# Altium integrated library Micron Memory Parallel NOR Flash.IntLib: 720 symbols (part 24 of 216)
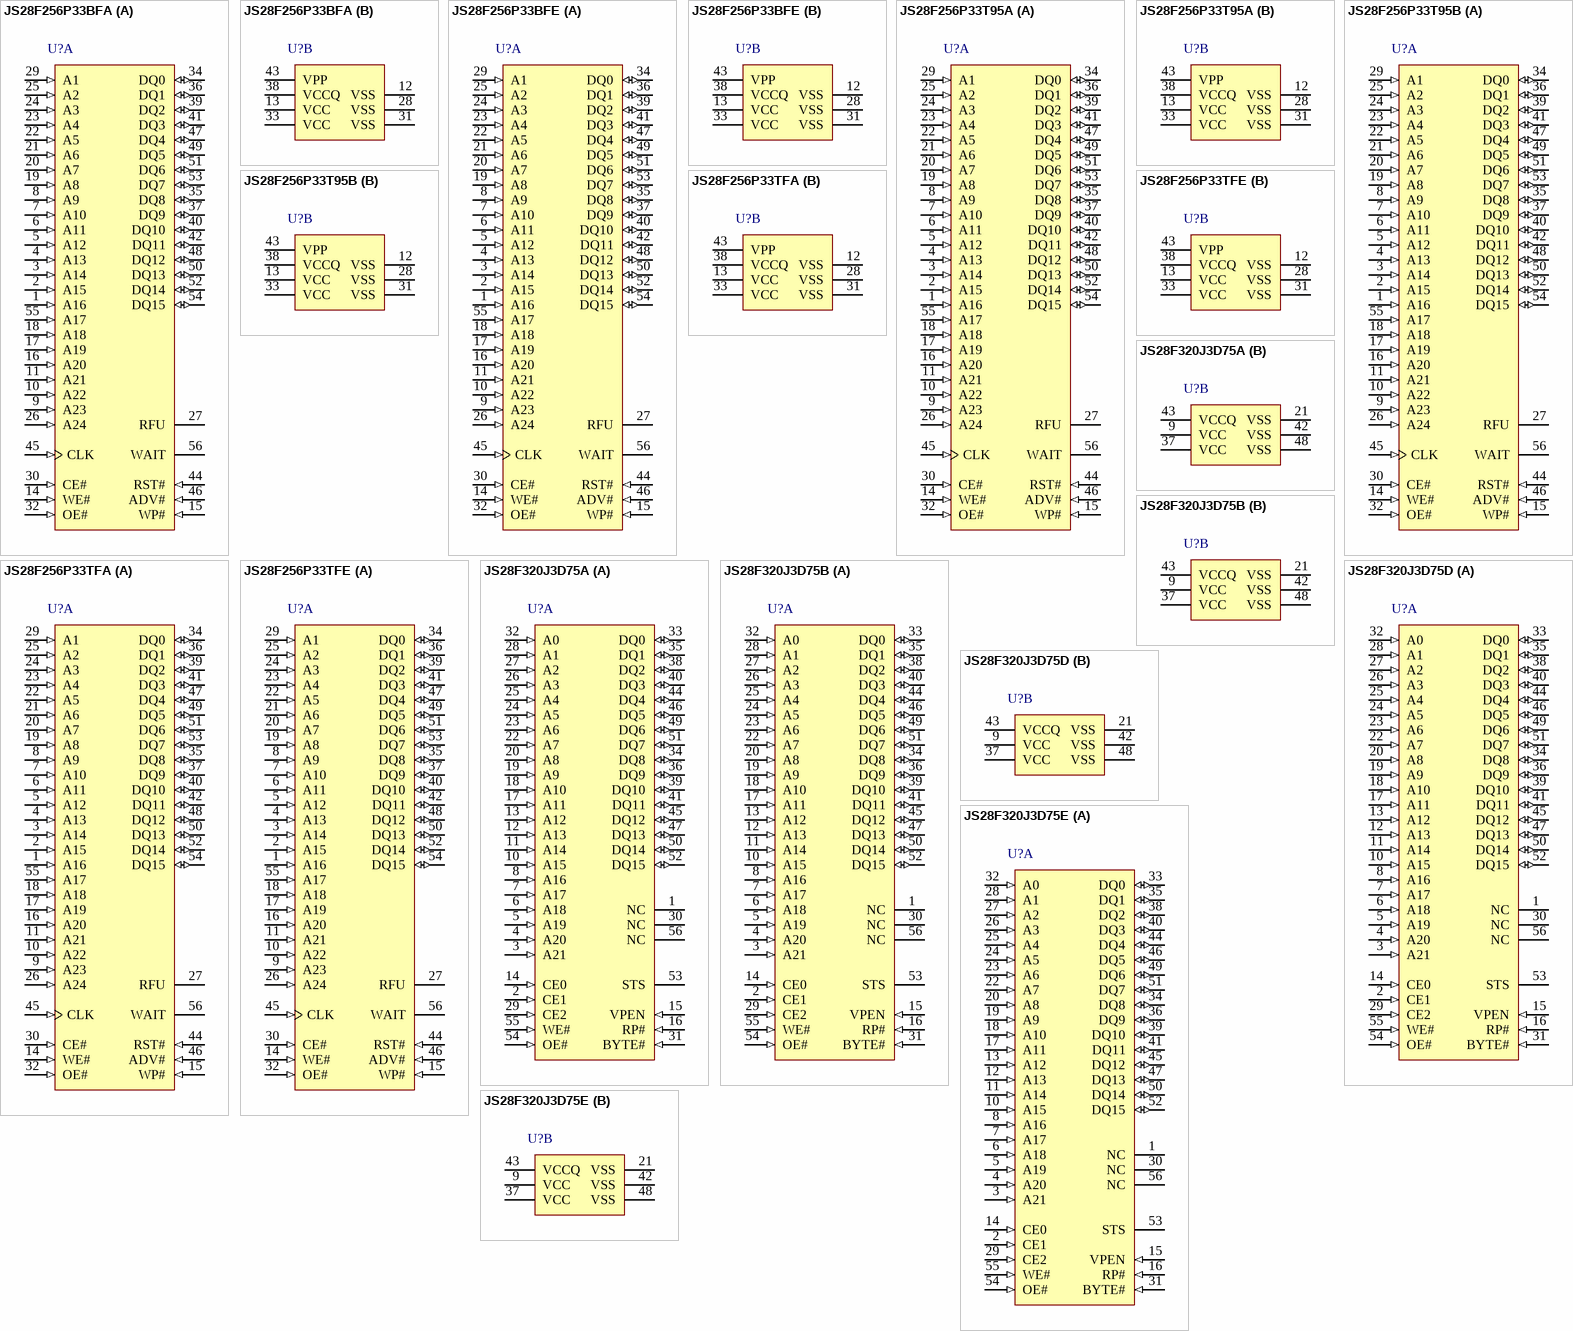
[diagram p83: symbols JS28F256P33BFA to JS28F320J3D75E]

## JS28F256P33BFA
designator U?
256 Mb (x16) Parallel NOR Flash Memory, 95 ns, 2.3 to 3.6 V, 56-pin TSOP (JS), Tray; Part Family: P33; Manufacturer: Micron; PartNumber: JS28F256P33BFA; Density: 256Mb; Op Temp: -40C to +85C; Speed: 95ns; Voltage: 2.3V-3.6V; DatasheetVersion: Rev.10; PackageVersion: Rev. 12; PackageReference: MICT-JS-56; PackageDescription: 56-Pin TSOP, 18.4 X 14 mm, Pitch 0.5 mm; RoHS: Yes; Width: x16; Mounting Technology: Surface Mount; ComponentLink1Description: Manufacturer URL; ComponentLink1URL: http://www.micron.com/; ComponentLink2Description: Datasheet; ComponentLink2URL: http://www.micron.com/~/media/Documents/Products/Data%20Sheet/NOR%20Flash/Parallel/J3/316577_J3D_Monolithic_DS.pdf; ComponentLink3Description: Package Specification; ComponentLink3URL: http://www.micron.com/~/media/Documents/Products/Data%20Sheet/NOR%20Flash/Parallel/P33/320003_P33_65nm_MLC_256MDiscrete_512MStack_DS.pdf
footprint MICT-JS-56_N (SOP, 56-Leads, Body 18.6x14.2mm, Pitch 0.5mm, IPC Medium Density)
part A pins: 1 A16 (in) "ADDRESS INPUT: Device Address Input. 256-Mbit: A[24:1]; 512-Mbit: A[25:1]. Note: The virtual selection of the 256-Mbit "Top parameter" die in the dual-die 512-Mbit configuration is accomplished by setting A25 high (VIH).(See Datasheet)", 2 A15 (in) "ADDRESS INPUT: Device Address Input. 256-Mbit: A[24:1]; 512-Mbit: A[25:1]. Note: The virtual selection of the 256-Mbit "Top parameter" die in the dual-die 512-Mbit configuration is accomplished by setting A25 high (VIH).(See Datasheet)", 3 A14 (in) "ADDRESS INPUT: Device Address Input. 256-Mbit: A[24:1]; 512-Mbit: A[25:1]. Note: The virtual selection of the 256-Mbit "Top parameter" die in the dual-die 512-Mbit configuration is accomplished by setting A25 high (VIH).(See Datasheet)", 4 A13 (in) "ADDRESS INPUT: Device Address Input. 256-Mbit: A[24:1]; 512-Mbit: A[25:1]. Note: The virtual selection of the 256-Mbit "Top parameter" die in the dual-die 512-Mbit configuration is accomplished by setting A25 high (VIH).(See Datasheet)", 5 A12 (in) "ADDRESS INPUT: Device Address Input. 256-Mbit: A[24:1]; 512-Mbit: A[25:1]. Note: The virtual selection of the 256-Mbit "Top parameter" die in the dual-die 512-Mbit configuration is accomplished by setting A25 high (VIH).(See Datasheet)", 6 A11 (in) "ADDRESS INPUT: Device Address Input. 256-Mbit: A[24:1]; 512-Mbit: A[25:1]. Note: The virtual selection of the 256-Mbit "Top parameter" die in the dual-die 512-Mbit configuration is accomplished by setting A25 high (VIH).(See Datasheet)", 7 A10 (in) "ADDRESS INPUT: Device Address Input. 256-Mbit: A[24:1]; 512-Mbit: A[25:1]. Note: The virtual selection of the 256-Mbit "Top parameter" die in the dual-die 512-Mbit configuration is accomplished by setting A25 high (VIH).(See Datasheet)", 8 A9 (in) "ADDRESS INPUT: Device Address Input. 256-Mbit: A[24:1]; 512-Mbit: A[25:1]. Note: The virtual selection of the 256-Mbit "Top parameter" die in the dual-die 512-Mbit configuration is accomplished by setting A25 high (VIH).(See Datasheet)", 9 A23 (in) "ADDRESS INPUT: Device Address Input. 256-Mbit: A[24:1]; 512-Mbit: A[25:1]. Note: The virtual selection of the 256-Mbit "Top parameter" die in the dual-die 512-Mbit configuration is accomplished by setting A25 high (VIH).(See Datasheet)", 10 A22 (in) "ADDRESS INPUT: Device Address Input. 256-Mbit: A[24:1]; 512-Mbit: A[25:1]. Note: The virtual selection of the 256-Mbit "Top parameter" die in the dual-die 512-Mbit configuration is accomplished by setting A25 high (VIH).(See Datasheet)", 11 A21 (in) "ADDRESS INPUT: Device Address Input. 256-Mbit: A[24:1]; 512-Mbit: A[25:1]. Note: The virtual selection of the 256-Mbit "Top parameter" die in the dual-die 512-Mbit configuration is accomplished by setting A25 high (VIH).(See Datasheet)", 14 WE# (in) "WRITE ENABLE: Active low input. WE# controls writes to the device. Address and data are latched on the rising edge of WE# or CE#, whichever occurs first.", 15 WP# (in) "WRITE PROTECT: Active low input. WP# low enables the lock-down mechanism. Blocks in lockdown cannot be unlocked with the Unlock command. WP# high overrides the lock-down function enabling blocks to be erased or programmed (See Datasheet)", 16 A20 (in) "ADDRESS INPUT: Device Address Input. 256-Mbit: A[24:1]; 512-Mbit: A[25:1]. Note: The virtual selection of the 256-Mbit "Top parameter" die in the dual-die 512-Mbit configuration is accomplished by setting A25 high (VIH).(See Datasheet)", 17 A19 (in) "ADDRESS INPUT: Device Address Input. 256-Mbit: A[24:1]; 512-Mbit: A[25:1]. Note: The virtual selection of the 256-Mbit "Top parameter" die in the dual-die 512-Mbit configuration is accomplished by setting A25 high (VIH).(See Datasheet)", 18 A18 (in) "ADDRESS INPUT: Device Address Input. 256-Mbit: A[24:1]; 512-Mbit: A[25:1]. Note: The virtual selection of the 256-Mbit "Top parameter" die in the dual-die 512-Mbit configuration is accomplished by setting A25 high (VIH).(See Datasheet)", 19 A8 (in) "ADDRESS INPUT: Device Address Input. 256-Mbit: A[24:1]; 512-Mbit: A[25:1]. Note: The virtual selection of the 256-Mbit "Top parameter" die in the dual-die 512-Mbit configuration is accomplished by setting A25 high (VIH).(See Datasheet)", 20 A7 (in) "ADDRESS INPUT: Device Address Input. 256-Mbit: A[24:1]; 512-Mbit: A[25:1]. Note: The virtual selection of the 256-Mbit "Top parameter" die in the dual-die 512-Mbit configuration is accomplished by setting A25 high (VIH).(See Datasheet)", 21 A6 (in) "ADDRESS INPUT: Device Address Input. 256-Mbit: A[24:1]; 512-Mbit: A[25:1]. Note: The virtual selection of the 256-Mbit "Top parameter" die in the dual-die 512-Mbit configuration is accomplished by setting A25 high (VIH).(See Datasheet)", 22 A5 (in) "ADDRESS INPUT: Device Address Input. 256-Mbit: A[24:1]; 512-Mbit: A[25:1]. Note: The virtual selection of the 256-Mbit "Top parameter" die in the dual-die 512-Mbit configuration is accomplished by setting A25 high (VIH).(See Datasheet)", 23 A4 (in) "ADDRESS INPUT: Device Address Input. 256-Mbit: A[24:1]; 512-Mbit: A[25:1]. Note: The virtual selection of the 256-Mbit "Top parameter" die in the dual-die 512-Mbit configuration is accomplished by setting A25 high (VIH).(See Datasheet)", 24 A3 (in) "ADDRESS INPUT: Device Address Input. 256-Mbit: A[24:1]; 512-Mbit: A[25:1]. Note: The virtual selection of the 256-Mbit "Top parameter" die in the dual-die 512-Mbit configuration is accomplished by setting A25 high (VIH).(See Datasheet)", 25 A2 (in) "ADDRESS INPUT: Device Address Input. 256-Mbit: A[24:1]; 512-Mbit: A[25:1]. Note: The virtual selection of the 256-Mbit "Top parameter" die in the dual-die 512-Mbit configuration is accomplished by setting A25 high (VIH).(See Datasheet)", 26 A24 (in) "ADDRESS INPUT: Device Address Input. 256-Mbit: A[24:1]; 512-Mbit: A[25:1]. Note: The virtual selection of the 256-Mbit "Top parameter" die in the dual-die 512-Mbit configuration is accomplished by setting A25 high (VIH).(See Datasheet)", 27 RFU "RESERVED FOR FUTURE USE: Reserved by Numonyx for future device functionality and enhancement. These should be treated in the same way as a Don't Use (DU) signal.", 29 A1 (in) "ADDRESS INPUT: Device Address Input. 256-Mbit: A[24:1]; 512-Mbit: A[25:1]. Note: The virtual selection of the 256-Mbit "Top parameter" die in the dual-die 512-Mbit configuration is accomplished by setting A25 high (VIH).(See Datasheet)", 30 CE# (in) "CHIP ENABLE: Active low input. CE# low selects the associated flash memory die. When asserted,flash internal control logic, input buffers, decoders, and sense amplifiers are active. When deasserted, the associated flash die (See Datasheet)", 32 OE# (in) "OUTPUT ENABLE: Active low input. OE# low enables the device's output data buffers during read cycles. OE# high places the data outputs and WAIT in High-Z.", 34 DQ0 (io) "DATA INPUT/OUTPUT: Inputs data and commands during write cycles; Outputs data during reads of memory, status register, OTP register, and read configuration register. Data balls float when the CE# or OE# are deasserted. Data is (See Datasheet)", 35 DQ8 (io) "DATA INPUT/OUTPUT: Inputs data and commands during write cycles; Outputs data during reads of memory, status register, OTP register, and read configuration register. Data balls float when the CE# or OE# are deasserted. Data (See Datasheet)", 36 DQ1 (io) "DATA INPUT/OUTPUT: Inputs data and commands during write cycles; Outputs data during reads of memory, status register, OTP register, and read configuration register. Data balls float when the CE# or OE# are deasserted. Data is (See Datasheet)", 37 DQ9 (io) "DATA INPUT/OUTPUT: Inputs data and commands during write cycles; Outputs data during reads of memory, status register, OTP register, and read configuration register. Data balls float when the CE# or OE# are deasserted. Data (See Datasheet)", 39 DQ2 (io) "DATA INPUT/OUTPUT: Inputs data and commands during write cycles; Outputs data during reads of memory, status register, OTP register, and read configuration register. Data balls float when the CE# or OE# are deasserted. Data is (See Datasheet)", 40 DQ10 (io) "DATA INPUT/OUTPUT: Inputs data and commands during write cycles; Outputs data during reads of memory, status register, OTP register, and read configuration register. Data balls float when the CE# or OE# are deasserted. Data (See Datasheet)", 41 DQ3 (io) "DATA INPUT/OUTPUT: Inputs data and commands during write cycles; Outputs data during reads of memory, status register, OTP register, and read configuration register. Data balls float when the CE# or OE# are deasserted. Data is (See Datasheet)", 42 DQ11 (io) "DATA INPUT/OUTPUT: Inputs data and commands during write cycles; Outputs data during reads of memory, status register, OTP register, and read configuration register. Data balls float when the CE# or OE# are deasserted. Data (See Datasheet)", 44 RST# (in) "RESET: Active low input. RST# resets internal automation and inhibits write operations. This provides data protection during power transitions. RST# high enables normal operation. Exit from reset places the device in (See Datasheet)", 45 CLK (in) "CLOCK: Synchronizes the device with the system's bus frequency in synchronous-read mode.During synchronous read operations, addresses are latched on the rising edge of ADV#, or on the next valid CLK edge with ADV# low, (See Datasheet)", 46 ADV# (in) "ADDRESS VALID: Active low input. During synchronous read operations, addresses are latched on the rising edge of ADV#, or on the next valid CLK edge with ADV# low, whichever occurs first.In asynchronous mode, the address is (See Datasheet)", 47 DQ4 (io) "DATA INPUT/OUTPUT: Inputs data and commands during write cycles; Outputs data during reads of memory, status register, OTP register, and read configuration register. Data balls float when the CE# or OE# are deasserted. Data is (See Datasheet)", 48 DQ12 (io) "DATA INPUT/OUTPUT: Inputs data and commands during write cycles; Outputs data during reads of memory, status register, OTP register, and read configuration register. Data balls float when the CE# or OE# are deasserted. Data (See Datasheet)", 49 DQ5 (io) "DATA INPUT/OUTPUT: Inputs data and commands during write cycles; Outputs data during reads of memory, status register, OTP register, and read configuration register. Data balls float when the CE# or OE# are deasserted. Data is (See Datasheet)", 50 DQ13 (io) "DATA INPUT/OUTPUT: Inputs data and commands during write cycles; Outputs data during reads of memory, status register, OTP register, and read configuration register. Data balls float when the CE# or OE# are deasserted. Data (See Datasheet)", 51 DQ6 (io) "DATA INPUT/OUTPUT: Inputs data and commands during write cycles; Outputs data during reads of memory, status register, OTP register, and read configuration register. Data balls float when the CE# or OE# are deasserted. Data is (See Datasheet)", 52 DQ14 (io) "DATA INPUT/OUTPUT: Inputs data and commands during write cycles; Outputs data during reads of memory, status register, OTP register, and read configuration register. Data balls float when the CE# or OE# are deasserted. Data (See Datasheet)", 53 DQ7 (io) "DATA INPUT/OUTPUT: Inputs data and commands during write cycles; Outputs data during reads of memory, status register, OTP register, and read configuration register. Data balls float when the CE# or OE# are deasserted. Data is (See Datasheet)", 54 DQ15 (io) "DATA INPUT/OUTPUT: Inputs data and commands during write cycles; Outputs data during reads of memory, status register, OTP register, and read configuration register. Data balls float when the CE# or OE# are deasserted. Data (See Datasheet)", 55 A17 (in) "ADDRESS INPUT: Device Address Input. 256-Mbit: A[24:1]; 512-Mbit: A[25:1]. Note: The virtual selection of the 256-Mbit "Top parameter" die in the dual-die 512-Mbit configuration is accomplished by setting A25 high (VIH).(See Datasheet)", 56 WAIT (hiz) "WAIT: Indicates data valid in synchronous array or non-array burst reads. RCR[10], (WT)determines its polarity when asserted. WAIT¡¯s active output is VOL or VOH when CE# and OE# are VIL. WAIT is high-Z if CE# or OE# is VIH.? (See Datasheet)"
part B pins: 12 VSS (power) "GROUND: Connect to system ground. Do not float any VSS connection.", 13 VCC (power) "DEVICE CORE POWER SUPPLY: Core (logic) source voltage. Writes to the flash array are inhibited when VCC =< VLKO. Operations at invalid VCC voltages should not be attempted.", 28 VSS (power) "GROUND: Connect to system ground. Do not float any VSS connection.", 31 VSS (power) "GROUND: Connect to system ground. Do not float any VSS connection.", 33 VCC (power) "DEVICE CORE POWER SUPPLY: Core (logic) source voltage. Writes to the flash array are inhibited when VCC =< VLKO. Operations at invalid VCC voltages should not be attempted.", 38 VCCQ (power) "OUTPUT POWER SUPPLY: Output-driver source voltage.", 43 VPP (power) "ERASE AND PROGRAM POWER: A valid voltage on this pin allows erasing or programming.Memory contents cannot be altered when VPP =< VPPLK. Block erase and program at invalid VPP voltages should not be attempted.Set VPP = VPPL (See Datasheet)"

## JS28F256P33BFE
designator U?
256 Mb (x16) Parallel NOR Flash Memory, 95 ns, 2.3 to 3.6 V, 56-pin TSOP (JS), Tray; Part Family: P33; Manufacturer: Micron; PartNumber: JS28F256P33BFE; Density: 256Mb; Op Temp: -40C to +85C; Speed: 95ns; Voltage: 2.3V-3.6V; DatasheetVersion: Rev.10; PackageVersion: Rev. 12; PackageReference: MICT-JS-56; PackageDescription: 56-Pin TSOP, 18.4 X 14 mm, Pitch 0.5 mm; RoHS: Yes; Width: x16; Mounting Technology: Surface Mount; ComponentLink1Description: Manufacturer URL; ComponentLink1URL: http://www.micron.com/; ComponentLink2Description: Datasheet; ComponentLink2URL: http://www.micron.com/~/media/Documents/Products/Data%20Sheet/NOR%20Flash/Parallel/J3/316577_J3D_Monolithic_DS.pdf; ComponentLink3Description: Package Specification; ComponentLink3URL: http://www.micron.com/~/media/Documents/Products/Data%20Sheet/NOR%20Flash/Parallel/P33/320003_P33_65nm_MLC_256MDiscrete_512MStack_DS.pdf
footprint MICT-JS-56_N (SOP, 56-Leads, Body 18.6x14.2mm, Pitch 0.5mm, IPC Medium Density)
part A pins: 1 A16 (in) "ADDRESS INPUT: Device Address Input. 256-Mbit: A[24:1]; 512-Mbit: A[25:1]. Note: The virtual selection of the 256-Mbit "Top parameter" die in the dual-die 512-Mbit configuration is accomplished by setting A25 high (VIH).(See Datasheet)", 2 A15 (in) "ADDRESS INPUT: Device Address Input. 256-Mbit: A[24:1]; 512-Mbit: A[25:1]. Note: The virtual selection of the 256-Mbit "Top parameter" die in the dual-die 512-Mbit configuration is accomplished by setting A25 high (VIH).(See Datasheet)", 3 A14 (in) "ADDRESS INPUT: Device Address Input. 256-Mbit: A[24:1]; 512-Mbit: A[25:1]. Note: The virtual selection of the 256-Mbit "Top parameter" die in the dual-die 512-Mbit configuration is accomplished by setting A25 high (VIH).(See Datasheet)", 4 A13 (in) "ADDRESS INPUT: Device Address Input. 256-Mbit: A[24:1]; 512-Mbit: A[25:1]. Note: The virtual selection of the 256-Mbit "Top parameter" die in the dual-die 512-Mbit configuration is accomplished by setting A25 high (VIH).(See Datasheet)", 5 A12 (in) "ADDRESS INPUT: Device Address Input. 256-Mbit: A[24:1]; 512-Mbit: A[25:1]. Note: The virtual selection of the 256-Mbit "Top parameter" die in the dual-die 512-Mbit configuration is accomplished by setting A25 high (VIH).(See Datasheet)", 6 A11 (in) "ADDRESS INPUT: Device Address Input. 256-Mbit: A[24:1]; 512-Mbit: A[25:1]. Note: The virtual selection of the 256-Mbit "Top parameter" die in the dual-die 512-Mbit configuration is accomplished by setting A25 high (VIH).(See Datasheet)", 7 A10 (in) "ADDRESS INPUT: Device Address Input. 256-Mbit: A[24:1]; 512-Mbit: A[25:1]. Note: The virtual selection of the 256-Mbit "Top parameter" die in the dual-die 512-Mbit configuration is accomplished by setting A25 high (VIH).(See Datasheet)", 8 A9 (in) "ADDRESS INPUT: Device Address Input. 256-Mbit: A[24:1]; 512-Mbit: A[25:1]. Note: The virtual selection of the 256-Mbit "Top parameter" die in the dual-die 512-Mbit configuration is accomplished by setting A25 high (VIH).(See Datasheet)", 9 A23 (in) "ADDRESS INPUT: Device Address Input. 256-Mbit: A[24:1]; 512-Mbit: A[25:1]. Note: The virtual selection of the 256-Mbit "Top parameter" die in the dual-die 512-Mbit configuration is accomplished by setting A25 high (VIH).(See Datasheet)", 10 A22 (in) "ADDRESS INPUT: Device Address Input. 256-Mbit: A[24:1]; 512-Mbit: A[25:1]. Note: The virtual selection of the 256-Mbit "Top parameter" die in the dual-die 512-Mbit configuration is accomplished by setting A25 high (VIH).(See Datasheet)", 11 A21 (in) "ADDRESS INPUT: Device Address Input. 256-Mbit: A[24:1]; 512-Mbit: A[25:1]. Note: The virtual selection of the 256-Mbit "Top parameter" die in the dual-die 512-Mbit configuration is accomplished by setting A25 high (VIH).(See Datasheet)", 14 WE# (in) "WRITE ENABLE: Active low input. WE# controls writes to the device. Address and data are latched on the rising edge of WE# or CE#, whichever occurs first.", 15 WP# (in) "WRITE PROTECT: Active low input. WP# low enables the lock-down mechanism. Blocks in lockdown cannot be unlocked with the Unlock command. WP# high overrides the lock-down function enabling blocks to be erased or programmed (See Datasheet)", 16 A20 (in) "ADDRESS INPUT: Device Address Input. 256-Mbit: A[24:1]; 512-Mbit: A[25:1]. Note: The virtual selection of the 256-Mbit "Top parameter" die in the dual-die 512-Mbit configuration is accomplished by setting A25 high (VIH).(See Datasheet)", 17 A19 (in) "ADDRESS INPUT: Device Address Input. 256-Mbit: A[24:1]; 512-Mbit: A[25:1]. Note: The virtual selection of the 256-Mbit "Top parameter" die in the dual-die 512-Mbit configuration is accomplished by setting A25 high (VIH).(See Datasheet)", 18 A18 (in) "ADDRESS INPUT: Device Address Input. 256-Mbit: A[24:1]; 512-Mbit: A[25:1]. Note: The virtual selection of the 256-Mbit "Top parameter" die in the dual-die 512-Mbit configuration is accomplished by setting A25 high (VIH).(See Datasheet)", 19 A8 (in) "ADDRESS INPUT: Device Address Input. 256-Mbit: A[24:1]; 512-Mbit: A[25:1]. Note: The virtual selection of the 256-Mbit "Top parameter" die in the dual-die 512-Mbit configuration is accomplished by setting A25 high (VIH).(See Datasheet)", 20 A7 (in) "ADDRESS INPUT: Device Address Input. 256-Mbit: A[24:1]; 512-Mbit: A[25:1]. Note: The virtual selection of the 256-Mbit "Top parameter" die in the dual-die 512-Mbit configuration is accomplished by setting A25 high (VIH).(See Datasheet)", 21 A6 (in) "ADDRESS INPUT: Device Address Input. 256-Mbit: A[24:1]; 512-Mbit: A[25:1]. Note: The virtual selection of the 256-Mbit "Top parameter" die in the dual-die 512-Mbit configuration is accomplished by setting A25 high (VIH).(See Datasheet)", 22 A5 (in) "ADDRESS INPUT: Device Address Input. 256-Mbit: A[24:1]; 512-Mbit: A[25:1]. Note: The virtual selection of the 256-Mbit "Top parameter" die in the dual-die 512-Mbit configuration is accomplished by setting A25 high (VIH).(See Datasheet)", 23 A4 (in) "ADDRESS INPUT: Device Address Input. 256-Mbit: A[24:1]; 512-Mbit: A[25:1]. Note: The virtual selection of the 256-Mbit "Top parameter" die in the dual-die 512-Mbit configuration is accomplished by setting A25 high (VIH).(See Datasheet)", 24 A3 (in) "ADDRESS INPUT: Device Address Input. 256-Mbit: A[24:1]; 512-Mbit: A[25:1]. Note: The virtual selection of the 256-Mbit "Top parameter" die in the dual-die 512-Mbit configuration is accomplished by setting A25 high (VIH).(See Datasheet)", 25 A2 (in) "ADDRESS INPUT: Device Address Input. 256-Mbit: A[24:1]; 512-Mbit: A[25:1]. Note: The virtual selection of the 256-Mbit "Top parameter" die in the dual-die 512-Mbit configuration is accomplished by setting A25 high (VIH).(See Datasheet)", 26 A24 (in) "ADDRESS INPUT: Device Address Input. 256-Mbit: A[24:1]; 512-Mbit: A[25:1]. Note: The virtual selection of the 256-Mbit "Top parameter" die in the dual-die 512-Mbit configuration is accomplished by setting A25 high (VIH).(See Datasheet)", 27 RFU "RESERVED FOR FUTURE USE: Reserved by Numonyx for future device functionality and enhancement. These should be treated in the same way as a Don't Use (DU) signal.", 29 A1 (in) "ADDRESS INPUT: Device Address Input. 256-Mbit: A[24:1]; 512-Mbit: A[25:1]. Note: The virtual selection of the 256-Mbit "Top parameter" die in the dual-die 512-Mbit configuration is accomplished by setting A25 high (VIH).(See Datasheet)", 30 CE# (in) "CHIP ENABLE: Active low input. CE# low selects the associated flash memory die. When asserted,flash internal control logic, input buffers, decoders, and sense amplifiers are active. When deasserted, the associated flash die (See Datasheet)", 32 OE# (in) "OUTPUT ENABLE: Active low input. OE# low enables the device's output data buffers during read cycles. OE# high places the data outputs and WAIT in High-Z.", 34 DQ0 (io) "DATA INPUT/OUTPUT: Inputs data and commands during write cycles; Outputs data during reads of memory, status register, OTP register, and read configuration register. Data balls float when the CE# or OE# are deasserted. Data is (See Datasheet)", 35 DQ8 (io) "DATA INPUT/OUTPUT: Inputs data and commands during write cycles; Outputs data during reads of memory, status register, OTP register, and read configuration register. Data balls float when the CE# or OE# are deasserted. Data (See Datasheet)", 36 DQ1 (io) "DATA INPUT/OUTPUT: Inputs data and commands during write cycles; Outputs data during reads of memory, status register, OTP register, and read configuration register. Data balls float when the CE# or OE# are deasserted. Data is (See Datasheet)", 37 DQ9 (io) "DATA INPUT/OUTPUT: Inputs data and commands during write cycles; Outputs data during reads of memory, status register, OTP register, and read configuration register. Data balls float when the CE# or OE# are deasserted. Data (See Datasheet)", 39 DQ2 (io) "DATA INPUT/OUTPUT: Inputs data and commands during write cycles; Outputs data during reads of memory, status register, OTP register, and read configuration register. Data balls float when the CE# or OE# are deasserted. Data is (See Datasheet)", 40 DQ10 (io) "DATA INPUT/OUTPUT: Inputs data and commands during write cycles; Outputs data during reads of memory, status register, OTP register, and read configuration register. Data balls float when the CE# or OE# are deasserted. Data (See Datasheet)", 41 DQ3 (io) "DATA INPUT/OUTPUT: Inputs data and commands during write cycles; Outputs data during reads of memory, status register, OTP register, and read configuration register. Data balls float when the CE# or OE# are deasserted. Data is (See Datasheet)", 42 DQ11 (io) "DATA INPUT/OUTPUT: Inputs data and commands during write cycles; Outputs data during reads of memory, status register, OTP register, and read configuration register. Data balls float when the CE# or OE# are deasserted. Data (See Datasheet)", 44 RST# (in) "RESET: Active low input. RST# resets internal automation and inhibits write operations. This provides data protection during power transitions. RST# high enables normal operation. Exit from reset places the device in (See Datasheet)", 45 CLK (in) "CLOCK: Synchronizes the device with the system's bus frequency in synchronous-read mode.During synchronous read operations, addresses are latched on the rising edge of ADV#, or on the next valid CLK edge with ADV# low, (See Datasheet)", 46 ADV# (in) "ADDRESS VALID: Active low input. During synchronous read operations, addresses are latched on the rising edge of ADV#, or on the next valid CLK edge with ADV# low, whichever occurs first.In asynchronous mode, the address is (See Datasheet)", 47 DQ4 (io) "DATA INPUT/OUTPUT: Inputs data and commands during write cycles; Outputs data during reads of memory, status register, OTP register, and read configuration register. Data balls float when the CE# or OE# are deasserted. Data is (See Datasheet)", 48 DQ12 (io) "DATA INPUT/OUTPUT: Inputs data and commands during write cycles; Outputs data during reads of memory, status register, OTP register, and read configuration register. Data balls float when the CE# or OE# are deasserted. Data (See Datasheet)", 49 DQ5 (io) "DATA INPUT/OUTPUT: Inputs data and commands during write cycles; Outputs data during reads of memory, status register, OTP register, and read configuration register. Data balls float when the CE# or OE# are deasserted. Data is (See Datasheet)", 50 DQ13 (io) "DATA INPUT/OUTPUT: Inputs data and commands during write cycles; Outputs data during reads of memory, status register, OTP register, and read configuration register. Data balls float when the CE# or OE# are deasserted. Data (See Datasheet)", 51 DQ6 (io) "DATA INPUT/OUTPUT: Inputs data and commands during write cycles; Outputs data during reads of memory, status register, OTP register, and read configuration register. Data balls float when the CE# or OE# are deasserted. Data is (See Datasheet)", 52 DQ14 (io) "DATA INPUT/OUTPUT: Inputs data and commands during write cycles; Outputs data during reads of memory, status register, OTP register, and read configuration register. Data balls float when the CE# or OE# are deasserted. Data (See Datasheet)", 53 DQ7 (io) "DATA INPUT/OUTPUT: Inputs data and commands during write cycles; Outputs data during reads of memory, status register, OTP register, and read configuration register. Data balls float when the CE# or OE# are deasserted. Data is (See Datasheet)", 54 DQ15 (io) "DATA INPUT/OUTPUT: Inputs data and commands during write cycles; Outputs data during reads of memory, status register, OTP register, and read configuration register. Data balls float when the CE# or OE# are deasserted. Data (See Datasheet)", 55 A17 (in) "ADDRESS INPUT: Device Address Input. 256-Mbit: A[24:1]; 512-Mbit: A[25:1]. Note: The virtual selection of the 256-Mbit "Top parameter" die in the dual-die 512-Mbit configuration is accomplished by setting A25 high (VIH).(See Datasheet)", 56 WAIT (hiz) "WAIT: Indicates data valid in synchronous array or non-array burst reads. RCR[10], (WT)determines its polarity when asserted. WAIT¡¯s active output is VOL or VOH when CE# and OE# are VIL. WAIT is high-Z if CE# or OE# is VIH.? (See Datasheet)"
part B pins: 12 VSS (power) "GROUND: Connect to system ground. Do not float any VSS connection.", 13 VCC (power) "DEVICE CORE POWER SUPPLY: Core (logic) source voltage. Writes to the flash array are inhibited when VCC =< VLKO. Operations at invalid VCC voltages should not be attempted.", 28 VSS (power) "GROUND: Connect to system ground. Do not float any VSS connection.", 31 VSS (power) "GROUND: Connect to system ground. Do not float any VSS connection.", 33 VCC (power) "DEVICE CORE POWER SUPPLY: Core (logic) source voltage. Writes to the flash array are inhibited when VCC =< VLKO. Operations at invalid VCC voltages should not be attempted.", 38 VCCQ (power) "OUTPUT POWER SUPPLY: Output-driver source voltage.", 43 VPP (power) "ERASE AND PROGRAM POWER: A valid voltage on this pin allows erasing or programming.Memory contents cannot be altered when VPP =< VPPLK. Block erase and program at invalid VPP voltages should not be attempted.Set VPP = VPPL (See Datasheet)"

## JS28F256P33T95A
designator U?
256 Mb (x16) Parallel NOR Flash Memory, 95 ns, 2.3 to 3.6 V, 56-pin TSOP (JS), Tray; Part Family: P33; Manufacturer: Micron; PartNumber: JS28F256P33T95A; Density: 256Mb; Op Temp: -40C to +85C; Speed: 95ns; Voltage: 2.3V-3.6V; DatasheetVersion: Rev. 05; PackageVersion: Rev. 12; PackageReference: MICT-JS-56; PackageDescription: 56-Pin TSOP, 18.4 X 14 mm, Pitch 0.5 mm; RoHS: Yes; Width: x16; Mounting Technology: Surface Mount; ComponentLink1Description: Manufacturer URL; ComponentLink1URL: http://www.micron.com/; ComponentLink2Description: Datasheet; ComponentLink2URL: http://www.micron.com/~/media/Documents/Products/Data%20Sheet/NOR%20Flash/Parallel/P33/314749_P33_130nm_Discrete_DS.pdf; ComponentLink3Description: Package Specification; ComponentLink3URL: http://www.micron.com/~/media/Documents/Products/Data%20Sheet/NOR%20Flash/Parallel/P33/320003_P33_65nm_MLC_256MDiscrete_512MStack_DS.pdf
footprint MICT-JS-56_N (SOP, 56-Leads, Body 18.6x14.2mm, Pitch 0.5mm, IPC Medium Density)
part A pins: 1 A16 (in) "ADDRESS INPUT: Device Address Input. 256-Mbit: A[24:1]; 512-Mbit: A[25:1]. Note: The virtual selection of the 256-Mbit "Top parameter" die in the dual-die 512-Mbit configuration is accomplished by setting A25 high (VIH).(See Datasheet)", 2 A15 (in) "ADDRESS INPUT: Device Address Input. 256-Mbit: A[24:1]; 512-Mbit: A[25:1]. Note: The virtual selection of the 256-Mbit "Top parameter" die in the dual-die 512-Mbit configuration is accomplished by setting A25 high (VIH).(See Datasheet)", 3 A14 (in) "ADDRESS INPUT: Device Address Input. 256-Mbit: A[24:1]; 512-Mbit: A[25:1]. Note: The virtual selection of the 256-Mbit "Top parameter" die in the dual-die 512-Mbit configuration is accomplished by setting A25 high (VIH).(See Datasheet)", 4 A13 (in) "ADDRESS INPUT: Device Address Input. 256-Mbit: A[24:1]; 512-Mbit: A[25:1]. Note: The virtual selection of the 256-Mbit "Top parameter" die in the dual-die 512-Mbit configuration is accomplished by setting A25 high (VIH).(See Datasheet)", 5 A12 (in) "ADDRESS INPUT: Device Address Input. 256-Mbit: A[24:1]; 512-Mbit: A[25:1]. Note: The virtual selection of the 256-Mbit "Top parameter" die in the dual-die 512-Mbit configuration is accomplished by setting A25 high (VIH).(See Datasheet)", 6 A11 (in) "ADDRESS INPUT: Device Address Input. 256-Mbit: A[24:1]; 512-Mbit: A[25:1]. Note: The virtual selection of the 256-Mbit "Top parameter" die in the dual-die 512-Mbit configuration is accomplished by setting A25 high (VIH).(See Datasheet)", 7 A10 (in) "ADDRESS INPUT: Device Address Input. 256-Mbit: A[24:1]; 512-Mbit: A[25:1]. Note: The virtual selection of the 256-Mbit "Top parameter" die in the dual-die 512-Mbit configuration is accomplished by setting A25 high (VIH).(See Datasheet)", 8 A9 (in) "ADDRESS INPUT: Device Address Input. 256-Mbit: A[24:1]; 512-Mbit: A[25:1]. Note: The virtual selection of the 256-Mbit "Top parameter" die in the dual-die 512-Mbit configuration is accomplished by setting A25 high (VIH).(See Datasheet)", 9 A23 (in) "ADDRESS INPUT: Device Address Input. 256-Mbit: A[24:1]; 512-Mbit: A[25:1]. Note: The virtual selection of the 256-Mbit "Top parameter" die in the dual-die 512-Mbit configuration is accomplished by setting A25 high (VIH).(See Datasheet)", 10 A22 (in) "ADDRESS INPUT: Device Address Input. 256-Mbit: A[24:1]; 512-Mbit: A[25:1]. Note: The virtual selection of the 256-Mbit "Top parameter" die in the dual-die 512-Mbit configuration is accomplished by setting A25 high (VIH).(See Datasheet)", 11 A21 (in) "ADDRESS INPUT: Device Address Input. 256-Mbit: A[24:1]; 512-Mbit: A[25:1]. Note: The virtual selection of the 256-Mbit "Top parameter" die in the dual-die 512-Mbit configuration is accomplished by setting A25 high (VIH).(See Datasheet)", 14 WE# (in) "WRITE ENABLE: Active low input. WE# controls writes to the device. Address and data are latched on the rising edge of WE# or CE#, whichever occurs first.", 15 WP# (in) "WRITE PROTECT: Active low input. WP# low enables the lock-down mechanism. Blocks in lockdown cannot be unlocked with the Unlock command. WP# high overrides the lock-down function enabling blocks to be erased or programmed (See Datasheet)", 16 A20 (in) "ADDRESS INPUT: Device Address Input. 256-Mbit: A[24:1]; 512-Mbit: A[25:1]. Note: The virtual selection of the 256-Mbit "Top parameter" die in the dual-die 512-Mbit configuration is accomplished by setting A25 high (VIH).(See Datasheet)", 17 A19 (in) "ADDRESS INPUT: Device Address Input. 256-Mbit: A[24:1]; 512-Mbit: A[25:1]. Note: The virtual selection of the 256-Mbit "Top parameter" die in the dual-die 512-Mbit configuration is accomplished by setting A25 high (VIH).(See Datasheet)", 18 A18 (in) "ADDRESS INPUT: Device Address Input. 256-Mbit: A[24:1]; 512-Mbit: A[25:1]. Note: The virtual selection of the 256-Mbit "Top parameter" die in the dual-die 512-Mbit configuration is accomplished by setting A25 high (VIH).(See Datasheet)", 19 A8 (in) "ADDRESS INPUT: Device Address Input. 256-Mbit: A[24:1]; 512-Mbit: A[25:1]. Note: The virtual selection of the 256-Mbit "Top parameter" die in the dual-die 512-Mbit configuration is accomplished by setting A25 high (VIH).(See Datasheet)", 20 A7 (in) "ADDRESS INPUT: Device Address Input. 256-Mbit: A[24:1]; 512-Mbit: A[25:1]. Note: The virtual selection of the 256-Mbit "Top parameter" die in the dual-die 512-Mbit configuration is accomplished by setting A25 high (VIH).(See Datasheet)", 21 A6 (in) "ADDRESS INPUT: Device Address Input. 256-Mbit: A[24:1]; 512-Mbit: A[25:1]. Note: The virtual selection of the 256-Mbit "Top parameter" die in the dual-die 512-Mbit configuration is accomplished by setting A25 high (VIH).(See Datasheet)", 22 A5 (in) "ADDRESS INPUT: Device Address Input. 256-Mbit: A[24:1]; 512-Mbit: A[25:1]. Note: The virtual selection of the 256-Mbit "Top parameter" die in the dual-die 512-Mbit configuration is accomplished by setting A25 high (VIH).(See Datasheet)", 23 A4 (in) "ADDRESS INPUT: Device Address Input. 256-Mbit: A[24:1]; 512-Mbit: A[25:1]. Note: The virtual selection of the 256-Mbit "Top parameter" die in the dual-die 512-Mbit configuration is accomplished by setting A25 high (VIH).(See Datasheet)", 24 A3 (in) "ADDRESS INPUT: Device Address Input. 256-Mbit: A[24:1]; 512-Mbit: A[25:1]. Note: The virtual selection of the 256-Mbit "Top parameter" die in the dual-die 512-Mbit configuration is accomplished by setting A25 high (VIH).(See Datasheet)", 25 A2 (in) "ADDRESS INPUT: Device Address Input. 256-Mbit: A[24:1]; 512-Mbit: A[25:1]. Note: The virtual selection of the 256-Mbit "Top parameter" die in the dual-die 512-Mbit configuration is accomplished by setting A25 high (VIH).(See Datasheet)", 26 A24 (in) "ADDRESS INPUT: Device Address Input. 256-Mbit: A[24:1]; 512-Mbit: A[25:1]. Note: The virtual selection of the 256-Mbit "Top parameter" die in the dual-die 512-Mbit configuration is accomplished by setting A25 high (VIH).(See Datasheet)", 27 RFU "RESERVED FOR FUTURE USE: Reserved by Numonyx for future device functionality and enhancement. These should be treated in the same way as a Don't Use (DU) signal.", 29 A1 (in) "ADDRESS INPUT: Device Address Input. 256-Mbit: A[24:1]; 512-Mbit: A[25:1]. Note: The virtual selection of the 256-Mbit "Top parameter" die in the dual-die 512-Mbit configuration is accomplished by setting A25 high (VIH).(See Datasheet)", 30 CE# (in) "CHIP ENABLE: Active low input. CE# low selects the associated flash memory die. When asserted,flash internal control logic, input buffers, decoders, and sense amplifiers are active. When deasserted, the associated flash die (See Datasheet)", 32 OE# (in) "OUTPUT ENABLE: Active low input. OE# low enables the device's output data buffers during read cycles. OE# high places the data outputs and WAIT in High-Z.", 34 DQ0 (io) "DATA INPUT/OUTPUT: Inputs data and commands during write cycles; Outputs data during reads of memory, status register, OTP register, and read configuration register. Data balls float when the CE# or OE# are deasserted. Data is (See Datasheet)", 35 DQ8 (io) "DATA INPUT/OUTPUT: Inputs data and commands during write cycles; Outputs data during reads of memory, status register, OTP register, and read configuration register. Data balls float when the CE# or OE# are deasserted. Data (See Datasheet)", 36 DQ1 (io) "DATA INPUT/OUTPUT: Inputs data and commands during write cycles; Outputs data during reads of memory, status register, OTP register, and read configuration register. Data balls float when the CE# or OE# are deasserted. Data is (See Datasheet)", 37 DQ9 (io) "DATA INPUT/OUTPUT: Inputs data and commands during write cycles; Outputs data during reads of memory, status register, OTP register, and read configuration register. Data balls float when the CE# or OE# are deasserted. Data (See Datasheet)", 39 DQ2 (io) "DATA INPUT/OUTPUT: Inputs data and commands during write cycles; Outputs data during reads of memory, status register, OTP register, and read configuration register. Data balls float when the CE# or OE# are deasserted. Data is (See Datasheet)", 40 DQ10 (io) "DATA INPUT/OUTPUT: Inputs data and commands during write cycles; Outputs data during reads of memory, status register, OTP register, and read configuration register. Data balls float when the CE# or OE# are deasserted. Data (See Datasheet)", 41 DQ3 (io) "DATA INPUT/OUTPUT: Inputs data and commands during write cycles; Outputs data during reads of memory, status register, OTP register, and read configuration register. Data balls float when the CE# or OE# are deasserted. Data is (See Datasheet)", 42 DQ11 (io) "DATA INPUT/OUTPUT: Inputs data and commands during write cycles; Outputs data during reads of memory, status register, OTP register, and read configuration register. Data balls float when the CE# or OE# are deasserted. Data (See Datasheet)", 44 RST# (in) "RESET: Active low input. RST# resets internal automation and inhibits write operations. This provides data protection during power transitions. RST# high enables normal operation. Exit from reset places the device in (See Datasheet)", 45 CLK (in) "CLOCK: Synchronizes the device with the system's bus frequency in synchronous-read mode.During synchronous read operations, addresses are latched on the rising edge of ADV#, or on the next valid CLK edge with ADV# low, (See Datasheet)", 46 ADV# (in) "ADDRESS VALID: Active low input. During synchronous read operations, addresses are latched on the rising edge of ADV#, or on the next valid CLK edge with ADV# low, whichever occurs first.In asynchronous mode, the address is (See Datasheet)", 47 DQ4 (io) "DATA INPUT/OUTPUT: Inputs data and commands during write cycles; Outputs data during reads of memory, status register, OTP register, and read configuration register. Data balls float when the CE# or OE# are deasserted. Data is (See Datasheet)", 48 DQ12 (io) "DATA INPUT/OUTPUT: Inputs data and commands during write cycles; Outputs data during reads of memory, status register, OTP register, and read configuration register. Data balls float when the CE# or OE# are deasserted. Data (See Datasheet)", 49 DQ5 (io) "DATA INPUT/OUTPUT: Inputs data and commands during write cycles; Outputs data during reads of memory, status register, OTP register, and read configuration register. Data balls float when the CE# or OE# are deasserted. Data is (See Datasheet)", 50 DQ13 (io) "DATA INPUT/OUTPUT: Inputs data and commands during write cycles; Outputs data during reads of memory, status register, OTP register, and read configuration register. Data balls float when the CE# or OE# are deasserted. Data (See Datasheet)", 51 DQ6 (io) "DATA INPUT/OUTPUT: Inputs data and commands during write cycles; Outputs data during reads of memory, status register, OTP register, and read configuration register. Data balls float when the CE# or OE# are deasserted. Data is (See Datasheet)", 52 DQ14 (io) "DATA INPUT/OUTPUT: Inputs data and commands during write cycles; Outputs data during reads of memory, status register, OTP register, and read configuration register. Data balls float when the CE# or OE# are deasserted. Data (See Datasheet)", 53 DQ7 (io) "DATA INPUT/OUTPUT: Inputs data and commands during write cycles; Outputs data during reads of memory, status register, OTP register, and read configuration register. Data balls float when the CE# or OE# are deasserted. Data is (See Datasheet)", 54 DQ15 (io) "DATA INPUT/OUTPUT: Inputs data and commands during write cycles; Outputs data during reads of memory, status register, OTP register, and read configuration register. Data balls float when the CE# or OE# are deasserted. Data (See Datasheet)", 55 A17 (in) "ADDRESS INPUT: Device Address Input. 256-Mbit: A[24:1]; 512-Mbit: A[25:1]. Note: The virtual selection of the 256-Mbit "Top parameter" die in the dual-die 512-Mbit configuration is accomplished by setting A25 high (VIH).(See Datasheet)", 56 WAIT (hiz) "WAIT: Indicates data valid in synchronous array or non-array burst reads. RCR[10], (WT)determines its polarity when asserted. WAIT¡¯s active output is VOL or VOH when CE# and OE# are VIL. WAIT is high-Z if CE# or OE# is VIH.? (See Datasheet)"
part B pins: 12 VSS (power) "GROUND: Connect to system ground. Do not float any VSS connection.", 13 VCC (power) "DEVICE CORE POWER SUPPLY: Core (logic) source voltage. Writes to the flash array are inhibited when VCC =< VLKO. Operations at invalid VCC voltages should not be attempted.", 28 VSS (power) "GROUND: Connect to system ground. Do not float any VSS connection.", 31 VSS (power) "GROUND: Connect to system ground. Do not float any VSS connection.", 33 VCC (power) "DEVICE CORE POWER SUPPLY: Core (logic) source voltage. Writes to the flash array are inhibited when VCC =< VLKO. Operations at invalid VCC voltages should not be attempted.", 38 VCCQ (power) "OUTPUT POWER SUPPLY: Output-driver source voltage.", 43 VPP (power) "ERASE AND PROGRAM POWER: A valid voltage on this pin allows erasing or programming.Memory contents cannot be altered when VPP =< VPPLK. Block erase and program at invalid VPP voltages should not be attempted.Set VPP = VPPL (See Datasheet)"